# Altium footprint library Pcb_Lib.PcbLib: 12 footprints
Each footprint in its own frame and in the unit in brackets; x right, y up, seen from the top. Pads: shape width x height; smd on the part's side, far side on the other; paste and mask are expansions set on the pad; w line width, h text height; cw(c..) or ccw(c..) is an arc to the next point about the centre after c.
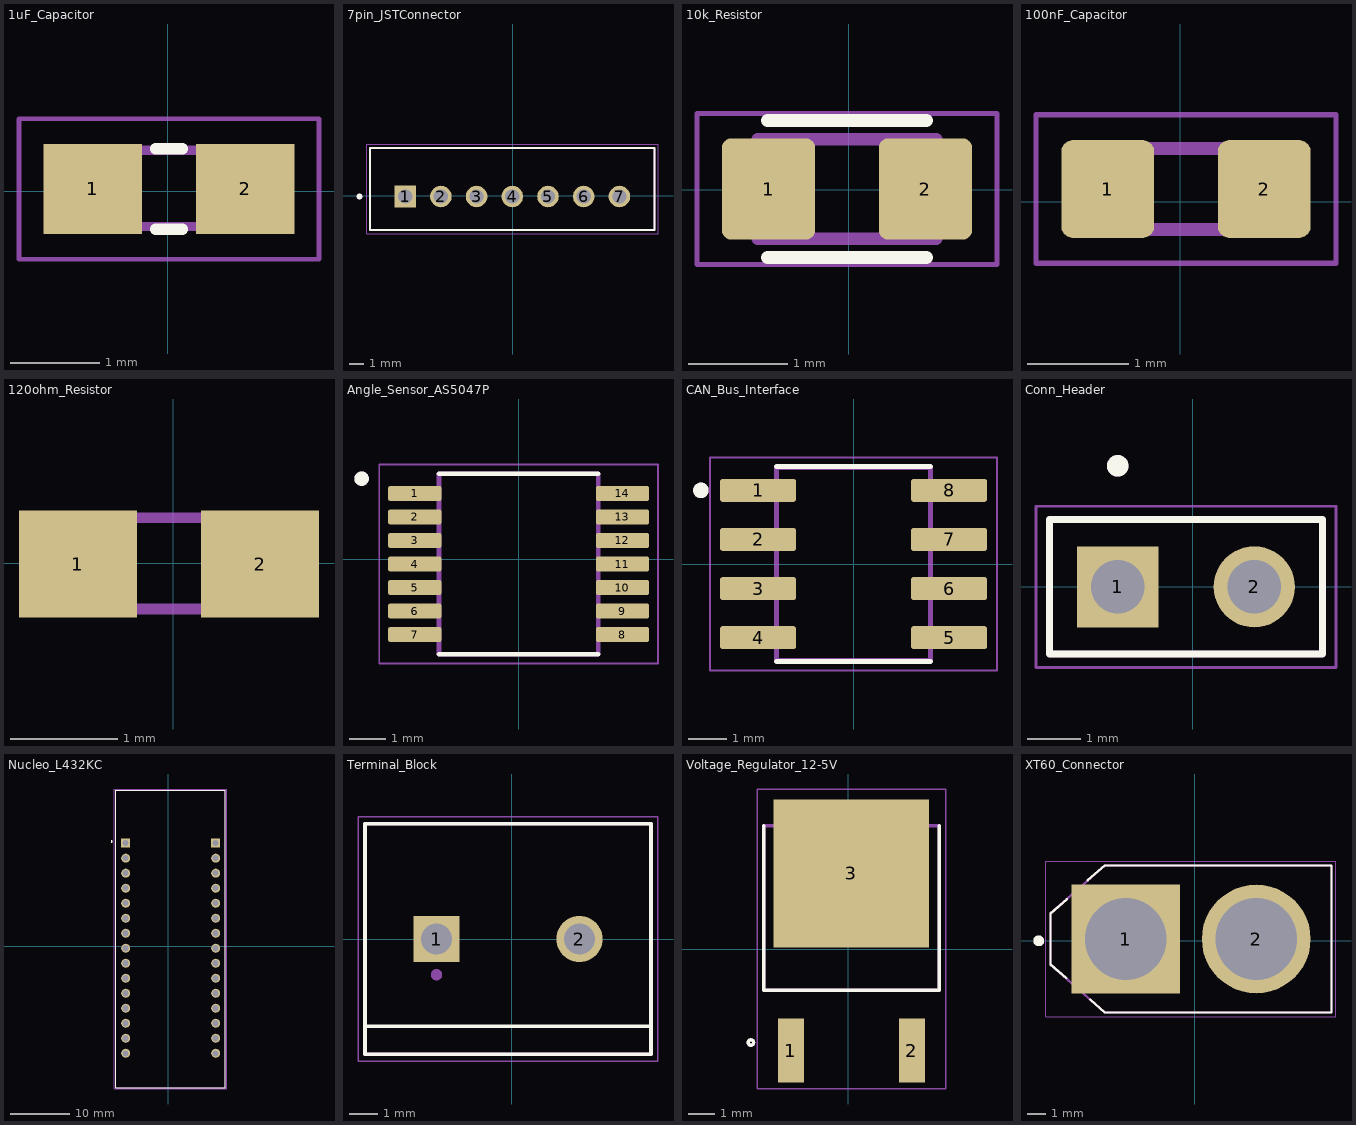
[diagram p0: the footprints below, top view; thin cyan lines are the x and y axes]

## 1uF_Capacitor [mm]
pads (2):
  rect 1.1x1 smd: 1(-0.834,0.024) 2(0.866,0.024)
Top Overlay:
  lines w0.127: -0.134,-0.426 0.166,-0.426 ; -0.134,0.474 0.166,0.474
Mechanical 13:
  region: -0.322,-0.446 -0.823,-0.446 -0.823,0.504 -0.322,0.504
  region: 0.846,-0.447 0.347,-0.447 0.347,0.504 0.846,0.504
  lines w0.102: -0.34,-0.395 0.372,-0.395 ; -0.34,0.456 0.372,0.456
Mechanical 15:
  lines w0.051: -1.657,-0.759 1.689,-0.759 1.689,0.807 -1.657,0.807 -1.657,-0.759

## 7pin_JSTConnector [mm]
pads (7):
  rect 1.508x1.508 hole 1: 1(-7.528,-0.052)
  round 1.508 hole 1: 2(-5.028,-0.052) 3(-2.528,-0.052) 4(-0.028,-0.052) 5(2.472,-0.052) 6(4.972,-0.052) 7(7.472,-0.052)
Top Overlay:
  circle w0.2: c-10.728,-0.052 r0.1
  lines w0.127: -9.978,-2.402 -9.978,3.348 9.922,3.348 9.922,-2.402 -9.978,-2.402
Mechanical 13:
  circle w0.2: c-10.728,-0.052 r0.1
  lines w0.127: -9.978,-2.402 -9.978,3.348 9.922,3.348 9.922,-2.402 -9.978,-2.402
Mechanical 15:
  lines w0.05: -10.228,-2.652 10.172,-2.652 10.172,3.598 -10.228,3.598 -10.228,-2.652
3D body "step_temp.STEP": height 7, standoff -3.4, extent -9.978,-2.402 9.922,3.348

## 10k_Resistor [mm]
pads (2):
  rrect20% 0.94x1.02 smd: 1(-0.806,0.006) 2(0.774,0.006)
Top Overlay:
  lines w0.127: -0.816,-0.684 0.784,-0.684 ; -0.816,0.696 0.784,0.696
Mechanical 13:
  lines w0.127: -0.916,-0.494 -0.916,0.506 0.884,0.506 0.884,-0.494 -0.916,-0.494
Mechanical 15:
  lines w0.05: -1.526,-0.754 -1.526,0.766 1.494,0.766 1.494,-0.754 -1.526,-0.754

## 100nF_Capacitor [mm]
pads (2):
  rrect25% 0.92x0.97 smd: 1(-0.719,0.127) 2(0.831,0.127)
Mechanical 13:
  lines w0.127: -0.744,-0.273 0.856,-0.273 0.856,0.527 -0.744,0.527 -0.744,-0.273
Mechanical 15:
  lines w0.05: -1.429,-0.608 1.541,-0.608 1.541,0.862 -1.429,0.862 -1.429,-0.608

## 120ohm_Resistor [mm]
pads (2):
  rect 1.1x1 smd: 1(-0.89,-0.005) 2(0.81,-0.005)
Mechanical 13:
  region: 0.791,-0.475 0.291,-0.475 0.291,0.475 0.791,0.475
  region: -0.378,-0.476 -0.879,-0.476 -0.879,0.475 -0.378,0.475
  lines w0.102: -0.396,-0.424 0.316,-0.424 ; -0.396,0.427 0.316,0.427

## Angle_Sensor_AS5047P [mm]
pads (14):
  rrect25% 1.47x0.41 smd mask+0.076: 1(-2.87,1.823) 2(-2.87,1.173) 3(-2.87,0.523) 4(-2.87,-0.127) 5(-2.87,-0.777) 6(-2.87,-1.427) 7(-2.87,-2.077) 8(2.87,-2.077) 9(2.87,-1.427) 10(2.87,-0.777) 11(2.87,-0.127) 12(2.87,0.523) 13(2.87,1.173) 14(2.87,1.823)
Top Overlay:
  circle w0.2: c-4.34,2.233 r0.1
  lines w0.127: -2.2,-2.627 2.2,-2.627 ; -2.2,2.373 2.2,2.373
Mechanical 13:
  circle w0.2: c-4.34,2.233 r0.1
  lines w0.127: -2.2,-2.627 2.2,-2.627 2.2,2.373 -2.2,2.373 -2.2,-2.627
Mechanical 15:
  lines w0.05: -3.855,-2.877 3.855,-2.877 3.855,2.623 -3.855,2.623 -3.855,-2.877

## CAN_Bus_Interface [mm]
pads (8):
  rrect25% 1.97x0.6 smd: 1(-2.47,1.905) 2(-2.47,0.635) 3(-2.47,-0.635) 4(-2.47,-1.905) 5(2.47,-1.905) 6(2.47,-0.635) 7(2.47,0.635) 8(2.47,1.905)
Top Overlay:
  circle w0.2: c-3.95,1.905 r0.1
  lines w0.127: -1.99,-2.519 1.99,-2.519 ; -1.99,2.519 1.99,2.519
Mechanical 13:
  circle w0.2: c-3.95,1.905 r0.1
  lines w0.127: -1.99,-2.5 1.99,-2.5 1.99,2.5 -1.99,2.5 -1.99,-2.5
Mechanical 15:
  lines w0.05: -3.71,-2.75 3.71,-2.75 3.71,2.75 -3.71,2.75 -3.71,-2.75

## Conn_Header [mm]
pads (2):
  rect 1.508x1.508 hole 1: 1(-1.397,0)
  round 1.508 hole 1: 2(1.143,0)
Top Overlay:
  circle w0.2: c-1.397,2.25 r0.1
  lines w0.127: -2.667,-1.25 2.413,-1.25 2.413,1.25 -2.667,1.25 -2.667,-1.25
Mechanical 13:
  circle w0.2: c-1.397,2.25 r0.1
  lines w0.127: -2.667,-1.25 2.413,-1.25 2.413,1.25 -2.667,1.25 -2.667,-1.25
Mechanical 15:
  lines w0.05: -2.917,-1.5 2.663,-1.5 2.663,1.5 -2.917,1.5 -2.917,-1.5

## Nucleo_L432KC [mm]
pads (30):
  rect 1.53x1.53 hole 1.02: CN3_1(-7.209,17.453) CN4_1(8.031,17.453)
  round 1.53 hole 1.02: CN3_2(-7.209,14.913) CN3_3(-7.209,12.373) CN3_4(-7.209,9.833) CN3_5(-7.209,7.293) CN3_6(-7.209,4.753) CN3_7(-7.209,2.213) CN3_8(-7.209,-0.327) CN3_9(-7.209,-2.867) CN3_10(-7.209,-5.407) CN3_11(-7.209,-7.947) CN3_12(-7.209,-10.487) CN3_13(-7.209,-13.027) CN3_14(-7.209,-15.567) CN3_15(-7.209,-18.107) CN4_2(8.031,14.913) CN4_3(8.031,12.373) CN4_4(8.031,9.833) CN4_5(8.031,7.293) CN4_6(8.031,4.753) CN4_7(8.031,2.213) CN4_8(8.031,-0.327) CN4_9(8.031,-2.867) CN4_10(8.031,-5.407) CN4_11(8.031,-7.947) CN4_12(8.031,-10.487) CN4_13(8.031,-13.027) CN4_14(8.031,-15.567) CN4_15(8.031,-18.107)
Top Overlay:
  circle w0.2: c-9.589,17.738 r0.1
  lines w0.127: -8.859,-23.907 9.681,-23.907 9.681,26.383 -8.859,26.383 -8.859,-23.907
Mechanical 13:
  circle w0.2: c-9.589,17.738 r0.1
  lines w0.127: -8.859,-23.907 -8.859,26.383 9.681,26.383 9.681,-23.907 -8.859,-23.907
Mechanical 15:
  lines w0.05: -9.109,-24.157 -9.109,26.633 9.931,26.633 9.931,-24.157 -9.109,-24.157

## Terminal_Block [mm]
pads (2):
  rect 1.65x1.65 hole 1.1: 1(-2.667,0)
  round 1.65 hole 1.1: 2(2.413,0)
Top Overlay:
  lines w0.127: -5.207,-3.1 4.953,-3.1 ; -5.207,-3.1 -5.207,4.1 4.953,4.1 4.953,-3.1 ; -5.207,-3.1 -5.207,-4.1 4.953,-4.1 4.953,-3.1
Mechanical 13:
  circle w0.2: c-2.667,-1.27 r0.1
  lines w0.127: -5.207,-4.1 -5.207,4.1 4.953,4.1 4.953,-4.1 -5.207,-4.1
Mechanical 15:
  lines w0.05: -5.457,-4.35 -5.457,4.35 5.203,4.35 5.203,-4.35 -5.457,-4.35

## Voltage_Regulator_12-5V [mm]
pads (3):
  rect 0.98x2.4 smd: 1(-2.153,-3.819) 2(2.407,-3.819)
  rect 5.86x5.57 smd paste-4: 3(0.127,2.851)
Top Overlay:
  circle w0.127: c-3.659,-3.519 r0.1
  lines w0.127: -3.173,4.651 -3.173,-1.549 3.427,-1.549 3.427,4.651
Mechanical 13:
  circle w0.127: c-3.659,-3.519 r0.1
  lines w0.127: -3.173,-1.549 3.427,-1.549 3.427,4.651 -3.173,4.651 -3.173,-1.549
Mechanical 15:
  lines w0.05: -3.423,-5.269 -3.423,6.031 3.677,6.031 3.677,-5.269 -3.423,-5.269

## XT60_Connector [mm]
pads (2):
  rect 6x6 hole 4.5: 1(-3.808,0.103)
  round 6 hole 4.5: 2(3.392,0.103)
Top Overlay:
  circle w0.3: c-8.608,0.003 r0.15
  lines w0.127: -7.093,-2.051 -7.958,-1.297 -7.958,1.503 -7.065,2.288 ; -5.897,3.348 -4.958,4.153 7.542,4.153 7.542,-3.947 -4.958,-3.947 -5.759,-3.239
Mechanical 13:
  lines w0.127: -7.958,-1.297 -7.958,1.503 -4.958,4.153 7.542,4.153 7.542,-3.947 -4.958,-3.947 -7.958,-1.297
Mechanical 15:
  lines w0.05: -8.208,-4.197 -8.208,4.403 7.792,4.403 7.792,-4.197 -8.208,-4.197